# EAGLE library part ESP-12F__2P00_24MM-X-16MM (library df4iah_rf)
AI-THINKER ESP-12F based on ESP8266
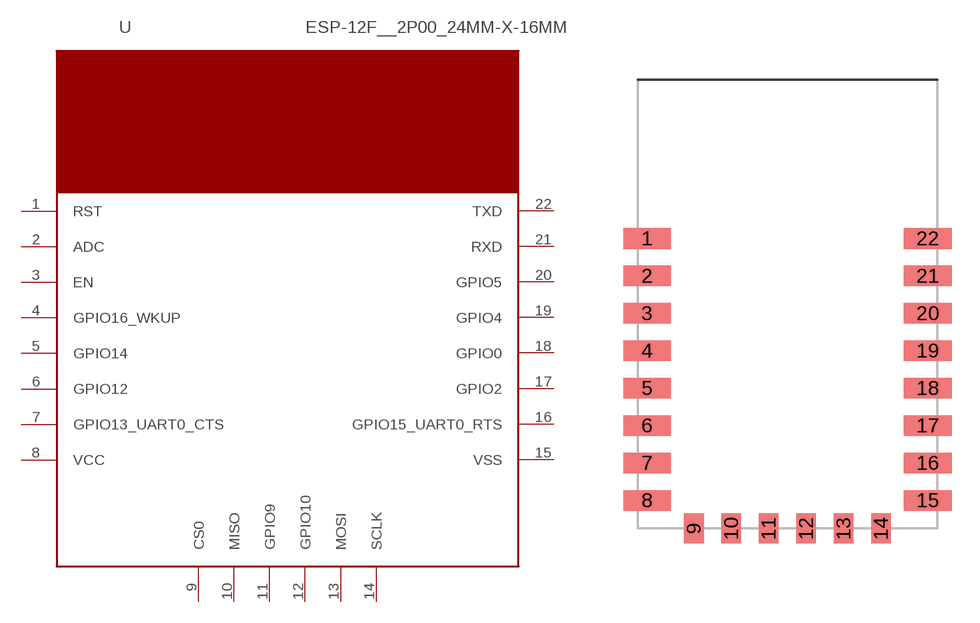
[diagram p6: symbol with the pads of ESP-12F__2P00_24MM-X-16MM; footprint ESP-12F__2P00_24MM-X-16MM]

Designator prefix U

## ESP-12F__2P00_24MM-X-16MM  [ESP-12F__2P00_24MM-X-16MM]
1  RST  in
2  ADC  pas
3  EN  in
4  GPIO16_WKUP
5  GPIO14
6  GPIO12
7  GPIO13_UART0_CTS
8  VCC  pwr
9  CS0  in
10  MISO
11  GPIO9
12  GPIO10
13  MOSI
14  SCLK
15  VSS  pas
16  GPIO15_UART0_RTS
17  GPIO2
18  GPIO0
19  GPIO4
20  GPIO5
21  RXD  in
22  TXD  out

## Footprint ESP-12F__2P00_24MM-X-16MM (pad centres in mm)
AI-THINKER ESP-12F based on ESP8266
smd 2.6 x 1.1: 1 -7.5,3.5; 2 -7.5,1.5; 3 -7.5,-0.5; 4 -7.5,-2.5; 5 -7.5,-4.5; 6 -7.5,-6.5; 7 -7.5,-8.5; 8 -7.5,-10.5; 15 7.5,-10.5; 16 7.5,-8.5; 17 7.5,-6.5; 18 7.5,-4.5; 19 7.5,-2.5; 20 7.5,-0.5; 21 7.5,1.5; 22 7.5,3.5
smd 1.1 x 1.6: 9 -5,-12; 10 -3,-12; 11 -1,-12; 12 1,-12; 13 3,-12; 14 5,-12